# Altium footprint library NCP5901B.PCBLIB: 1 footprints
Each footprint in its own frame and in the unit in brackets; x right, y up, seen from the top. Pads: shape width x height; smd on the part's side, far side on the other; paste and mask are expansions set on the pad; w line width, h text height; cw(c..) or ccw(c..) is an arc to the next point about the centre after c.
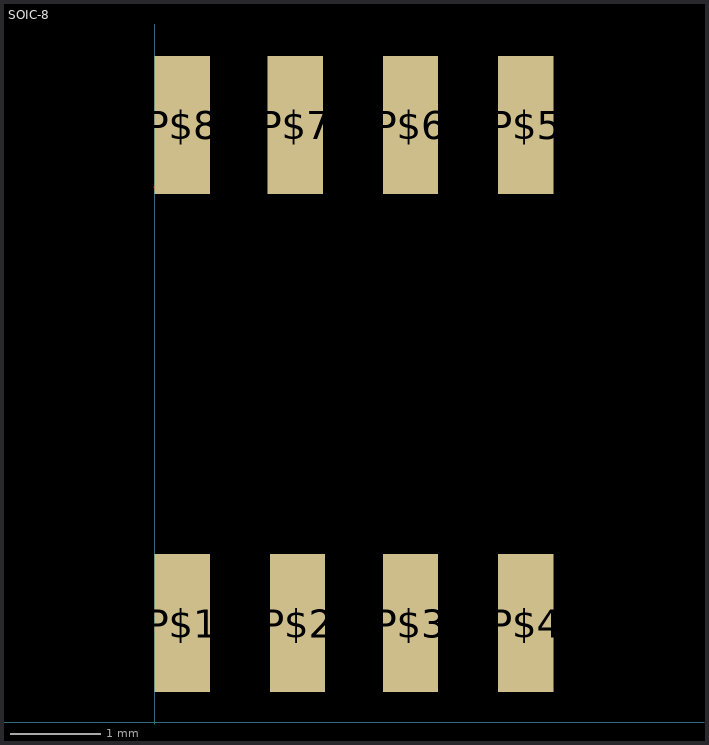
[diagram p0: the footprint, top view; thin cyan lines are the x and y axes]

## SOIC-8 [mil]
pads (8):
  rect 24x60 smd: P$1(12,43) P$2(62,43) P$3(111,43) P$4(161,43) P$5(161,259) P$6(111,259) P$7(61,259) P$8(12,259)
Top Layer:
  lines w1: 0,232 3,232